# EAGLE library part ATTINY261A-MU (library MCU)
IC, MCU, 8 BIT, AVR, 2KB FLASH, 32-VQFN
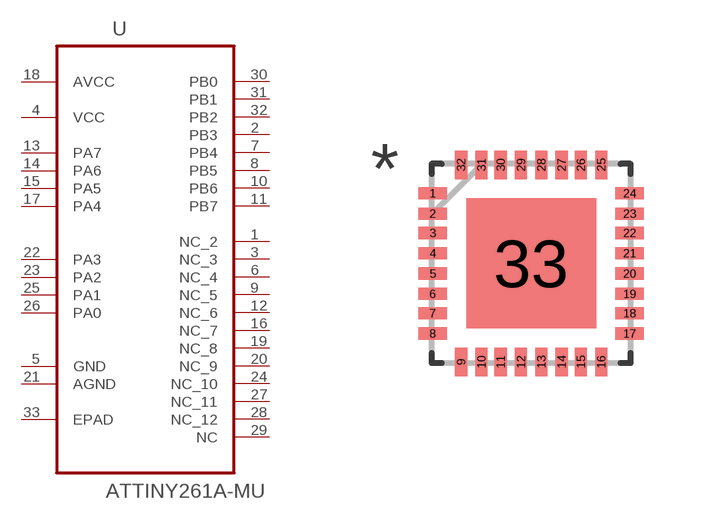
[diagram p0: symbol with the pads of QFN50P500X500X100-33N; footprint QFN50P500X500X100-33N]

Designator prefix U

## ATTINY261A-MU (MPN: ATTINY261A-MU; OC_FARNELL: 2311063; OC_NEWARK: 68T3650; PACKAGE: VQFN-32; SUPPLIER: ATMEL)  [QFN50P500X500X100-33N]
1  NC_2  nc
2  PB3
3  NC_3  nc
4  VCC  pwr
5  GND  pwr
6  NC_4  nc
7  PB4
8  PB5
9  NC_5  nc
10  PB6
11  PB7
12  NC_6  nc
13  PA7
14  PA6
15  PA5
16  NC_7  nc
17  PA4
18  AVCC  pwr
19  NC_8  nc
20  NC_9  nc
21  AGND  pwr
22  PA3
23  PA2
24  NC_10  nc
25  PA1
26  PA0
27  NC_11  nc
28  NC_12  nc
29  NC  nc
30  PB0
31  PB1
32  PB2
33  EPAD  pas

## Footprint QFN50P500X500X100-33N (pad centres in mm)
smd 0.711 x 0.305: 1 -2.464,1.753; 2 -2.464,1.245; 3 -2.464,0.762; 4 -2.464,0.254; 5 -2.464,-0.254; 6 -2.464,-0.762; 7 -2.464,-1.245; 8 -2.464,-1.753; 17 2.464,-1.753; 18 2.464,-1.245; 19 2.464,-0.762; 20 2.464,-0.254; 21 2.464,0.254; 22 2.464,0.762; 23 2.464,1.245; 24 2.464,1.753
smd 0.305 x 0.711: 9 -1.753,-2.464; 10 -1.245,-2.464; 11 -0.762,-2.464; 12 -0.254,-2.464; 13 0.254,-2.464; 14 0.762,-2.464; 15 1.245,-2.464; 16 1.753,-2.464; 25 1.753,2.464; 26 1.245,2.464; 27 0.762,2.464; 28 0.254,2.464; 29 -0.254,2.464; 30 -0.762,2.464; 31 -1.245,2.464; 32 -1.753,2.464
smd 3.251 x 3.251: 33 0,0